# Altium schematic symbol library TB6612FNG.SchLib: 1 symbol
Pins are listed as number, name and electrical type; pins without a type are passive.

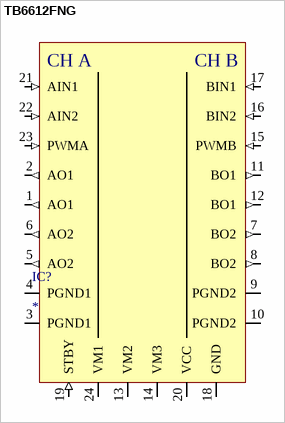
[diagram p0: symbol TB6612FNG]

## TB6612FNG
designator IC?
ComponentLink1Description: Datasheet; ComponentLink1URL: https://toshiba.semicon-storage.com/info/TB6612FNG_datasheet_en_20141001.pdf?did=10660&prodName=TB6612FNG; Supplier 1: Arrow Electronics; Supplier Part Number 1: TB6612FNG,C,8,EL
footprint SOP65P760X160-24N
pins: 1 AO1 (out), 2 AO1 (out), 3 PGND1, 4 PGND1, 5 AO2 (out), 6 AO2 (out), 7 BO2 (out), 8 BO2 (out), 9 PGND2 (power), 10 PGND2 (power), 11 BO1 (out), 12 BO1 (out), 13 VM2 (power), 14 VM3 (power), 15 PWMB (in), 16 BIN2 (in), 17 BIN1 (in), 18 GND (power), 19 STBY (in), 20 VCC (power), 21 AIN1 (in), 22 AIN2 (in), 23 PWMA (in), 24 VM1 (power)
text: CH A; CH B